# EAGLE library part NOKIA5110 (library marius)
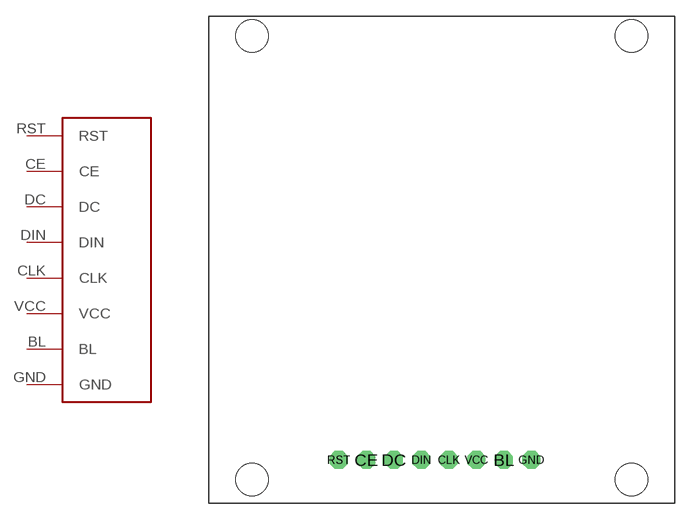
[diagram p8: symbol with the pads of NOKIA5110_DX; footprint NOKIA5110_DX]

Designator prefix -

## NOKIA5110  [NOKIA5110_DX]
BL  BL
CE  CE
CLK  CLK
DC  DC
DIN  DIN
GND  GND
RST  RST
VCC  VCC

## Footprint NOKIA5110_DX (pad centres in mm)
drill 0.8 pad 1.676 octagon: BL 5.65,-18.86; CE -7.05,-18.86; CLK 0.57,-18.86; DC -4.51,-18.86; DIN -1.97,-18.86; GND 8.19,-18.86; RST -9.59,-18.86; VCC 3.11,-18.86
hole 3 at -17.59,20.34
hole 3 at 17.41,20.34
hole 3 at 17.41,-20.66
hole 3 at -17.59,-20.66